# Altium footprint library Hw_Prj_PCB.PcbLib: 20 footprints (part 2 of 2)
Each footprint in its own frame and in the unit in brackets; x right, y up, seen from the top. Pads: shape width x height; smd on the part's side, far side on the other; paste and mask are expansions set on the pad; w line width, h text height; cw(c..) or ccw(c..) is an arc to the next point about the centre after c.
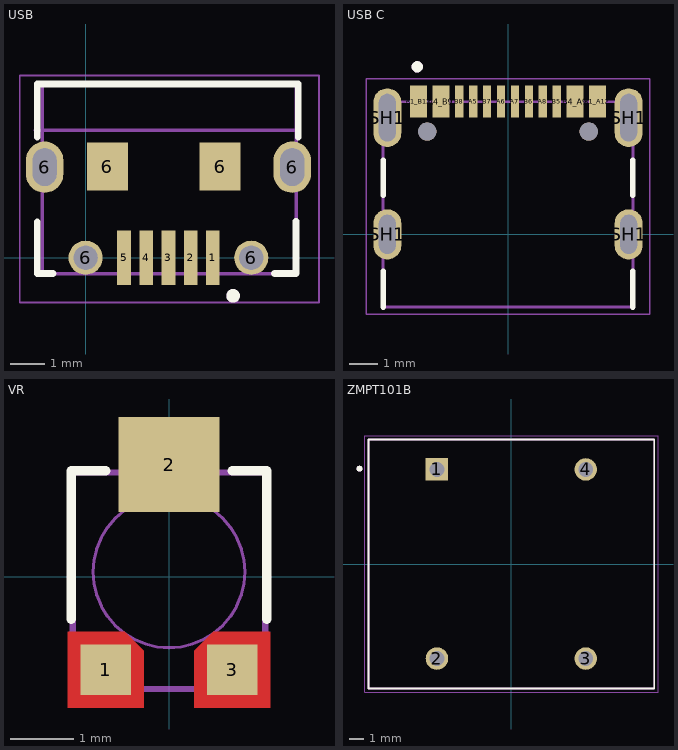
[diagram p1: the footprints below, top view; thin cyan lines are the x and y axes]

## USB [mm]
pads (11):
  rect 0.4x1.6 smd: 1(3.725,0) 2(3.075,0) 3(2.425,0) 4(1.775,0) 5(1.125,0)
  oval 1.1x1.5 hole 0.7 slot 1.1 at 90 deg: 6(-1.2,2.65) 6(6.05,2.65)
  round 1 hole 0.7: 6(0,0) 6(4.85,0)
  rect 1.2x1.4 smd: 6(0.635,2.667) 6(3.937,2.667)
Top Overlay:
  circle w0.2: c4.318,-1.118 r0.1
  lines w0.2: -1.414,1.041 -1.414,-0.464 -0.959,-0.464 ; -1.414,3.531 -1.414,5.086 6.223,5.086 6.223,3.531 ; 5.531,-0.464 6.164,-0.464 6.164,1.066
Mechanical 13:
  circle w0.2: c4.318,-1.118 r0.1
  lines w0.1: -1.473,3.736 6.198,3.736 ; -1.27,-0.464 -1.27,5.086 6.172,5.086 6.172,-0.464 -1.27,-0.464
Mechanical 15:
  lines w0.05: -1.93,-1.314 -1.93,5.336 6.833,5.336 6.833,-1.314 -1.93,-1.314
3D body "step_temp.STEP": height 2.66, standoff -1, extent -1.27,-0.489 6.13,5.061

## USB C [mm]
pads (18):
  rect 0.6x1.15 smd mask+0.05: A1_B12(-3.2,4.755) A4_B9(-2.4,4.755) B1_A12(3.2,4.755) B4_A9(2.4,4.755)
  rect 0.3x1.15 smd mask+0.05: A5(-1.25,4.755) A6(-0.25,4.755) A7(0.25,4.755) A8(1.25,4.755) B5(1.75,4.755) B6(0.75,4.755) B7(-0.75,4.755) B8(-1.75,4.755)
  oval 1x1.8 hole 0.6 slot 1.4 at 90 deg: SH1(-4.32,0) SH1(4.32,0)
  oval 1x2.1 hole 0.6 slot 1.7 at 90 deg: SH1(-4.32,4.18) SH1(4.32,4.18)
  round 0.65 hole 0.65 unplated: ""(-2.89,3.68) ""(2.89,3.68)
Top Overlay:
  circle w0.2: c-3.25,6 r0.1
  lines w0.2: -4.47,-2.6 -4.47,-1.32 ; -4.47,1.4 -4.47,2.65 ; 4.47,-2.6 4.47,-1.32 ; 4.47,1.4 4.47,2.65
Mechanical 13:
  circle w0.2: c-3.25,6 r0.1
  lines w0.1: -4.47,-2.6 -4.47,4.75 4.47,4.75 4.47,-2.6 -4.47,-2.6
  text "PCB EDGE" at 0.762,-2.159 h0.41
Mechanical 15:
  lines w0.05: -5.07,-2.85 5.07,-2.85 5.07,5.58 -5.07,5.58 -5.07,-2.85
  text ".Designator" at -3.556,0.762 h1.52
3D body "USB4105-GF-A--3DModel-STEP-510211.STEP": height 3.31, standoff -1.1, extent -4.47,-2.6 4.47,5.11

## VR [mm]
pads (3):
  rect 0.8x0.8 smd paste-1 mask+0: 1(-1,-1.473) 3(1,-1.473)
  rect 1.6x1.5 smd: 2(0,1.777)
Top Layer:
  region: -0.4,-1.173 -0.4,-2.073 -1.6,-2.073 -1.6,-0.873 -0.7,-0.873
  region: 1.6,-2.073 0.4,-2.073 0.4,-1.173 0.7,-0.873 1.6,-0.873
Top Overlay:
  lines w0.152: -1.55,-0.673 -1.55,1.677 -1,1.677 ; 1,1.677 1.55,1.677 1.55,-0.673
Top Paste:
  region: -0.4,-1.173 -0.4,-2.073 -1.6,-2.073 -1.6,-0.873 -0.7,-0.873
  region: 1.6,-2.073 0.4,-2.073 0.4,-1.173 0.7,-0.873 1.6,-0.873
Top Solder:
  region: -0.3,-1.173 -0.3,-2.173 -1.7,-2.173 -1.7,-0.773 -0.7,-0.773
  region: 1.7,-2.173 0.3,-2.173 0.3,-1.173 0.7,-0.773 1.7,-0.773
Mechanical 13:
  circle w0.05: c0,0.077 r1.202
  lines w0.05: -1.55,-1.773 1.55,-1.773 1.55,1.677 -1.55,1.677 -1.55,-1.773
Mechanical 15:
  lines w0.1: -1.524,-1.778 1.524,-1.778 1.524,1.651 -1.524,1.651 -1.524,-1.778
  text ".Designator" at -1.27,-0.339 h0.51
3D body "EVM3ESX50Bxx-Panasonic.STEP": height 1.62, standoff 0, extent -1.55,-2.032 1.55,1.768

## ZMPT101B [mm]
pads (4):
  rect 1.508x1.508 / inner round 1.508 / far side rect 1.508x1.508 hole 1: 1(-5,6.35)
  round 1.508 hole 1: 2(-5,-6.35) 3(5,-6.35) 4(5,6.35)
Top Overlay:
  circle w0.2: c-10.2,6.4 r0.1
  lines w0.127: -9.6,-8.35 9.6,-8.35 9.6,8.35 -9.6,8.35 -9.6,-8.35
Mechanical 13:
  circle w0.2: c-10.2,6.4 r0.1
  lines w0.127: -9.6,-8.35 -9.6,8.35 9.6,8.35 9.6,-8.35 -9.6,-8.35
Mechanical 15:
  lines w0.05: -9.85,-8.6 -9.85,8.6 9.85,8.6 9.85,-8.6 -9.85,-8.6
3D body "step_temp.STEP": height 18.8, standoff -3.5, extent -9.6,-8.35 9.6,8.35